# EAGLE library part 50238-008 (library con-aces-50238-series)
ACES CONNECTORS 50238 SERIES ACES Connecors 50238 <https://www.acesconn.com/tw/series/50238-xxxxx-xxx/1290>
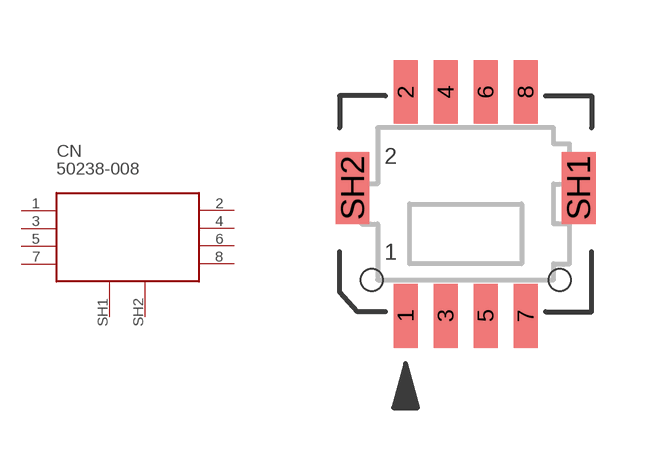
[diagram p0: symbol with the pads of 50238-008; footprint 50238-008]

Designator prefix CN

## 50238-008  [50238-008]
1  1
2  2
3  3
4  4
5  5
6  6
7  7
8  8
SH1  SH1
SH2  SH2

## Footprint 50238-008 (pad centres in mm)
smd 0.6 x 1.6: 1 -1.5,-2.8; 2 -1.5,2.8; 3 -0.5,-2.8; 4 -0.5,2.8; 5 0.5,-2.8; 6 0.5,2.8; 7 1.5,-2.8; 8 1.5,2.8
smd 0.85 x 1.8: SH1 2.825,0.4; SH2 -2.825,0.4
hole 0.55 at -2.35,-1.9
hole 0.55 at 2.35,-1.9